# Altium footprint library TRIM_3314J-1-103E.PcbLib: 1 footprints
Each footprint in its own frame and in the unit in brackets; x right, y up, seen from the top. Pads: shape width x height; smd on the part's side, far side on the other; paste and mask are expansions set on the pad; w line width, h text height; cw(c..) or ccw(c..) is an arc to the next point about the centre after c.
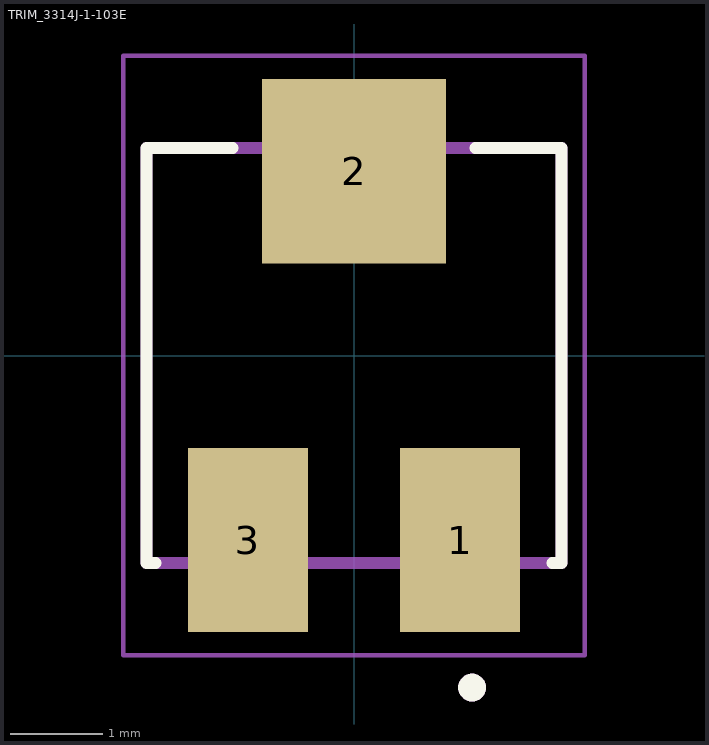
[diagram p0: the footprint, top view; thin cyan lines are the x and y axes]

## TRIM_3314J-1-103E [mm]
pads (3):
  rect 1.3x2 smd: 1(1.15,-2) 3(-1.15,-2)
  rect 2x2 smd: 2(0,2)
Top Overlay:
  circle w0.2: c1.28,-3.6 r0.05
  lines w0.127: -2.15,-2.25 -2.25,-2.25 -2.25,2.25 -1.315,2.25 ; 1.315,2.25 2.25,2.25 2.25,-2.25 2.15,-2.25
Assembly Top:
  circle w0.2: c1.28,-3.6 r0.05
  lines w0.127: -2.25,-2.25 -2.25,2.25 2.25,2.25 2.25,-2.25 -2.25,-2.25
Top Courtyard:
  lines w0.05: -2.5,-3.25 -2.5,3.25 2.5,3.25 2.5,-3.25 -2.5,-3.25
3D body "step_temp.STEP": height 2.55, standoff 0, extent -2.5,-2.5 2.5,2.5